# Altium schematic symbol library LSP_Schlib.SchLib: 24 symbols
Pins are listed as number, name and electrical type; pins without a type are passive.

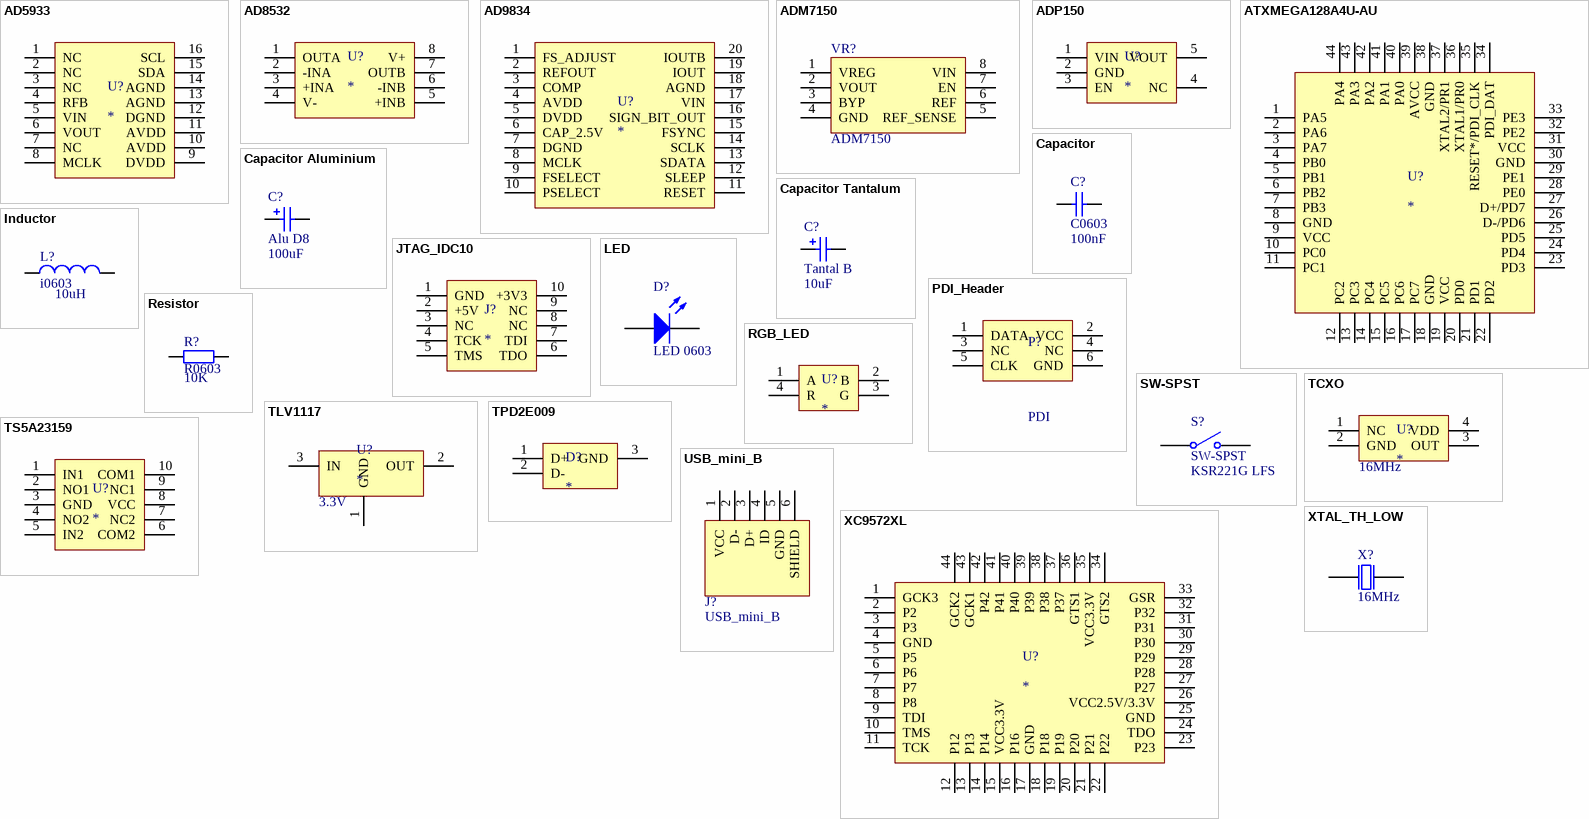
[diagram p0: symbols AD5933 to XTAL_TH_LOW]

## AD5933
designator U?
network analyzer
footprint AD5933 (SOP, 16-Leads, Body 6,5x5,6mm (max), Pitch 0,65mm, IPC Medium Density)
pins: 1 NC, 2 NC, 3 NC, 4 RFB, 5 VIN, 6 VOUT, 7 NC, 8 MCLK, 9 DVDD, 10 AVDD, 11 AVDD, 12 DGND, 13 AGND, 14 AGND, 15 SDA, 16 SCL

## AD8532
designator U?
opamp high current out
footprint AD8532_MSOP8 (TSOP, 8-Leads, Body 3,2x3,2mm (max), Pitch 0,65mm, IPC Medium Density)
pins: 1 OUTA, 2 -INA, 3 +INA, 4 V-, 5 +INB, 6 -INB, 7 OUTB, 8 V+

## AD9834
designator U?
75 MHz Complete DDS
footprint AD9834_TSSOP20 (TSOP, 20-Leads, Body 6,6x4,5mm (max), Pitch 0,65mm, IPC Medium Density)
pins: 1 FS_ADJUST, 2 REFOUT, 3 COMP, 4 AVDD, 5 DVDD, 6 CAP_2.5V, 7 DGND, 8 MCLK, 9 FSELECT, 10 PSELECT, 11 RESET, 12 SLEEP, 13 SDATA, 14 SCLK, 15 FSYNC, 16 SIGN_BIT_OUT, 17 VIN, 18 AGND, 19 IOUT, 20 IOUTB

## ADM7150
designator VR?
800 mA Ultralow Noise,  High PSRR, RF Linear Regulator
footprint ADM7150_SOIC8 (SOIC, 8-Leads, Body 4,90x3,90mm, Pitch 1,27mm, Thermal Pad 6,00x2,41mm, IPC Medium Density)
pins: 1 VREG, 2 VOUT, 3 BYP, 4 GND, 5 REF_SENSE, 6 REF, 7 EN, 8 VIN

## ADP150
designator U?
100 mA +5V regulator
footprint ADP150 (SOT23, 5-Leads, Body 2,9x2,8mm (max), Pitch 0,95mm, IPC Medium Density)
pins: 1 VIN, 2 GND, 3 EN, 4 NC, 5 VOUT

## ATXMEGA128A4U-AU
designator U?
8/16-bit Atmel XMEGA Microcontroller
footprint ATXMEGAA4U_TQFP44 (TQFP, 44-Leads, Body 12,3x12,3mm (max), Pitch 0,80mm, IPC Medium Density)
pins: 1 PA5, 2 PA6, 3 PA7, 4 PB0, 5 PB1, 6 PB2, 7 PB3, 8 GND, 9 VCC, 10 PC0, 11 PC1, 12 PC2, 13 PC3, 14 PC4, 15 PC5, 16 PC6, 17 PC7, 18 GND, 19 VCC, 20 PD0, 21 PD1, 22 PD2, 23 PD3, 24 PD4, 25 PD5, 26 D-/PD6, 27 D+/PD7, 28 PE0, 29 PE1, 30 GND, 31 VCC, 32 PE2, 33 PE3, 34 PDI_DAT, 35 RESET*/PDI_CLK, 36 XTAL1/PR0, 37 XTAL2/PR1, 38 GND, 39 AVCC, 40 PA0, 41 PA1, 42 PA2, 43 PA3, 44 PA4

## Capacitor
designator C?, comment C0603  value 100nF
Ceramic Capacitor
footprint 0603_HandSoldering (Chip Resistor, 2-Leads, Body 1.6x0.8mm, IPC Medium Density)
pins: 1, 2

## Capacitor Aluminium
designator C?, comment Alu D8  value 100uF
Aluminium Electrolythic Capacitor
footprint PANASONIC SIZE D8 (Aluminum Electrolytic Capacitor, Body 6,60x6,60x7,70mm, IPC Low Density)
pins: 1, 2
1 alternate drawing of the same symbol

## Capacitor Tantalum
designator C?, comment Tantal B  value 10uF
Tantalum Capacitor
footprint AVX-CAPC3528_V (SMT Capacitor, 2 Leads, Body 3.5x2.8mm)
pins: 1, 2
1 alternate drawing of the same symbol

## Inductor
designator L?, comment i0603  value 10uH
Inductor
footprint 0603_HandSoldering (Chip Resistor, 2-Leads, Body 1.6x0.8mm, IPC Medium Density)
pins: 1, 2

## JTAG_IDC10
designator J?
JTAG IDC10 Bus Pirate
footprint IDC10 (IDC 10 pin connector)
pins: 1 GND, 2 +5V, 3 NC, 4 TCK, 5 TMS, 6 TDO, 7 TDI, 8 NC, 9 NC, 10 +3V3

## LED
designator D?, comment LED 0603
SMD LED 0603
footprint 0603_LED (SMD LED, Body 1.6x0.8mm)
pins: 1 A, 2 K

## OpenSourceHWLOGO
designator ?  (value not drawn)
footprint OpenSourceHWLOGO

## PDI_Header
designator P?, comment PDI
PDI Programming Interface
footprint PDI_HDR2X3 (PDI Connector; Header; 3x2 Position)
pins: 1 DATA, 2 VCC, 3 NC, 4 NC, 5 CLK, 6 GND

## Resistor
designator R?, comment R0603  value 10K
Resistor
footprint 0603_HandSoldering (Chip Resistor, 2-Leads, Body 1.6x0.8mm, IPC Medium Density)
pins: 1, 2

## RGB_LED
designator U?
RGB LED ASMB-MTB0-0A3A2
footprint PLCC-4_LED (Standard PLCC-4 LED package)
pins: 1 A, 2 B, 3 G, 4 R

## SW-SPST
designator S?  value KSR221G LFS
KSR221G LFS Tactile Switch
footprint KSR221G_LFS_Tactile_Switch (C & K COMPONENTS  KSR221G LFS  SWITCH, SPST, 0.05A, 32VDC, SMD)
pins: 1 COMMON, 2 NO

## TCXO
designator U?  value 16MHz
FOX FOX924B-16.000  TCXO, 16.0MHZ, 3.3V CMOS, SMD
footprint TCXO_5x3 (TCXO 5mm x 3.2mm)
pins: 1 NC, 2 GND, 3 OUT, 4 VDD

## TLV1117
designator U?  value 3.3V
LDO
footprint TLV1117_SOT223 (SOT223, 4-Leads, Body 6,7x7,3mm (max), Pitch 2,30mm, IPC Medium Density)
pins: 1 GND, 2 OUT, 3 IN

## TPD2E009
designator D?
ESD protection
footprint TPD2E009_SOT23_3 (SOT23, 3-Leads, Body 3,0x2,6mm (max), Pitch 0,95mm, IPC Medium Density)
pins: 1 D+, 2 D-, 3 GND

## TS5A23159
designator U?
1-Ohm 5-V/3.3-V 2-Channel SPDT Switch
footprint TS5A23159_VSSOP10 (TSSOP, 10-Leads, Body 3,1x3,1mm (max), Pitch 0,50mm, IPC Medium Density)
pins: 1 IN1, 2 NO1, 3 GND, 4 NO2, 5 IN2, 6 COM2, 7 NC2, 8 VCC, 9 NC1, 10 COM1

## USB_mini_B
designator J?
USB 2.0 mini B receptacle
footprint USB mini B receptacle (popravek)
pins: 1 VCC, 2 D-, 3 D+, 4 ID, 5 GND, 6 SHIELD

## XC9572XL
designator U?
Xilinx CPLD 72 macrocells
footprint XC9572XL_QFP44 (QFP, 44-Leads, Body 9,80x9,80mm, Pitch 0,80mm, IPC Medium Density)
pins: 1 GCK3, 2 P2, 3 P3, 4 GND, 5 P5, 6 P6, 7 P7, 8 P8, 9 TDI, 10 TMS, 11 TCK, 12 P12, 13 P13, 14 P14, 15 VCC3.3V, 16 P16, 17 GND, 18 P18, 19 P19, 20 P20, 21 P21, 22 P22, 23 P23, 24 TDO, 25 GND, 26 VCC2.5V/3.3V, 27 P27, 28 P28, 29 P29, 30 P30, 31 P31, 32 P32, 33 GSR, 34 GTS2, 35 VCC3.3V, 36 GTS1, 37 P37, 38 P38, 39 P39, 40 P40, 41 P41, 42 P42, 43 GCK1, 44 GCK2

## XTAL_TH_LOW
designator X?, comment 16MHz
XTAL TH low profile; Value: 16MHz
footprint XTAL_TH_LOW (XTAL TH low profile)
pins: 1 inp, 2 out